# EAGLE library part I2C_SAFE_BIFIR_LVLSHIFTER (library Adafruit_Arduino)
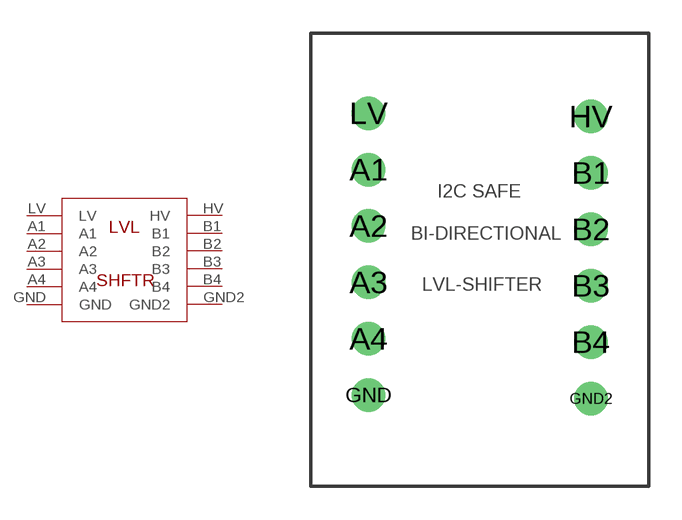
[diagram p8: symbol with the pads of I2C_SAFE_BIDIR_LVLSHIFTER; footprint I2C_SAFE_BIDIR_LVLSHIFTER]

Designator prefix -

## I2C_SAFE_BIFIR_LVLSHIFTER  [I2C_SAFE_BIDIR_LVLSHIFTER]
A1  A1
A2  A2
A3  A3
A4  A4
B1  B1
B2  B2
B3  B3
B4  B4
GND  GND
GND2  GND2
HV  HV
LV  LV

## Footprint I2C_SAFE_BIDIR_LVLSHIFTER (pad centres in mm)
drill 1: A1 -5,4.06; A2 -5,1.52; A3 -5,-1.02; A4 -5,-3.56; B1 5,3.91; B2 5,1.37; B3 5,-1.17; B4 5,-3.71; GND -5,-6.1; GND2 5,-6.25; HV 5,6.45; LV -5,6.6